# Altium schematic symbol library Wurth.SchLib: 1 symbol
Pins are listed as number, name and electrical type; pins without a type are passive.

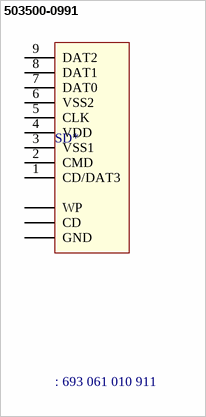
[diagram p0: symbol 503500-0991]

## 503500-0991
designator SD*, comment : 693 061 010 911
SD Card Connector - Push & Push - With Card Detection / 9 pins; MP: 503500-0991; MF: Molex; Price: 2.91 USD; Package: FakePackage u; Availability: Good; Value: *
footprint 693061010911 (Speicherkartenverbinder WR-CRD SD Card Dtctn 9Pin Push & Push)
pins: 1 CD/DAT3, 2 CMD, 3 VSS1, 4 VDD, 5 CLK, 6 VSS2, 7 DAT0, 8 DAT1, 9 DAT2, CD, GND, WP